# Altium schematic symbol library pporyzala-TI_Lighting.SchLib: 745 symbols (part 45 of 48)
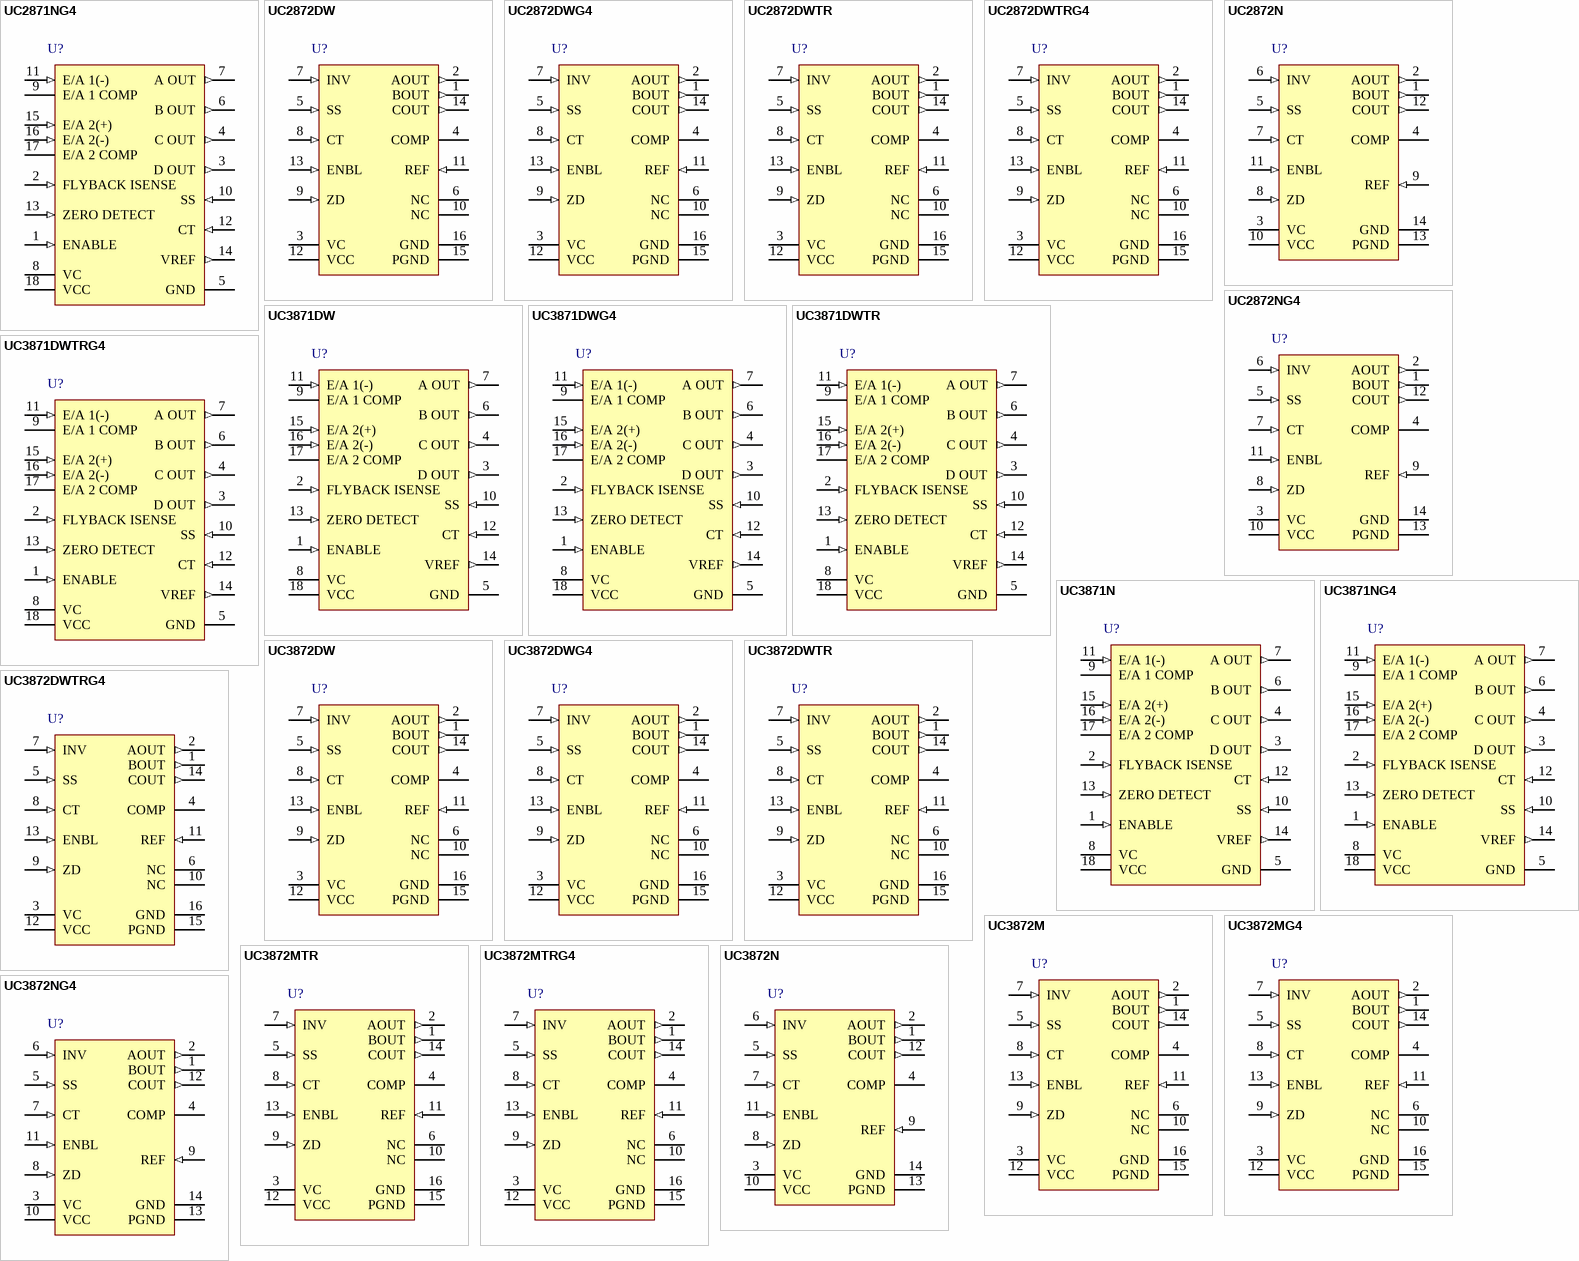
[diagram p75: symbols UC2871NG4 to UC3872NG4]

## UC2872DW
designator U?
Resonant Lamp Ballast Controller, 4.5 to 24 V, -40 to 85 degC, 16-pin SOIC (DW16), Green (RoHS & no Sb/Br); Manufacturer: Texas Instruments; PartNumber: UC2872DW; Control Topology: Push-Pull; Frequency(Max)(kHz): 200; Open Lamp Detect: TRUE; Rating: Catalog; SubFamily: CCFL Backlight Converter; Vin(Max)(V): 24; Vin(Min)(V): 4.5; PackageVersion: 4040000-2/G; PackageReference: DW16; PackageDescription: 16-Pin Plastic Small Outline, Body 10.30 x 7.50 mm, Pitch 1.27 mm; Supplier 1: Digi-Key; Supplier Part Number 1: 296-11200-5-ND; Supplier 2: Newark; Supplier Part Number 2: 77C3059; Supplier 3: Mouser; Supplier Part Number 3: 595-UC2872DW; Eco-Plan: Green (RoHS & no Sb/Br); Mounting Technology: Surface Mount; Code_JEDEC: MS-013; ComponentLink1Description: Manufacturer URL; ComponentLink1URL: http://www.ti.com/; ComponentLink2Description: Datasheet; ComponentLink2URL: http://www.ti.com/general/docs/lit/getliterature.tsp?genericPartNumber=UC2872&fileType=pdf; ComponentLink3Description: Package Specification; ComponentLink3URL: http://www.ti.com/litv/pdf/msoi003g
footprint TI-DW16_N (SOIC, 16-Leads, Body 10.3x7.5mm, Pitch 1.27mm, IPC Medium Density)
footprint TI-DW16_L (SOIC, 16-Leads, Body 10.3x7.5mm, Pitch 1.27mm, IPC High Density)
footprint TI-DW16_M (SOIC, 16-Leads, Body 10.3x7.5mm, Pitch 1.27mm, IPC Low Density)
pins: 1 BOUT (out) "These outputs provide complementary drive signals for the push-pull N-channel MOSFETs.Each one is high for 50% of the time, switching states each time a zero-detect is sensed.", 2 AOUT (out) "These outputs provide complementary drive signals for the push-pull N-channel MOSFETs.Each one is high for 50% of the time, switching states each time a zero-detect is sensed.", 3 VC (power) "VC is the power supply voltage connection for the output drivers. Bypass it to ground with a 0.1uF ceramic capacitor for proper operation.", 4 COMP "COMP is the output terminal of the error amplifier. Compensation components are normally connected between COMP and INV. Connecting a capacitor from this pin to ground limits turn on current and blanks the open lamp detect (See Datasheet)", 5 SS (in), 6 NC, 7 INV (in) "This pin is the inverting input to the error amplifier and the input for the open lamp detect circuitry. If the voltage at INV is below the 1V open lamp detect threshold,the outputs are disabled.", 8 CT (in) "A capacitor connected between this pin and GND ground sets the synchronization frequency range. The capacitor is charged with approximately 200uA, creating a linear ramp which is used by COUT’s (buck regulator driver) PWM (See Datasheet)", 9 ZD (in) "The zero-detect input senses when the transformer’s primary center tap voltage falls to zero to synchronize the sawtooth voltage waveform on CT. The threshold is approximately 0.5V, providing a small amount of offset such (See Datasheet)", 10 NC, 11 REF (in) "This pin is connected to the 3V reference voltage which is used for the internal logic. Bypass REF to ground with a 0.01uF ceramic capacitor for proper operation.", 12 VCC (power) "VCC is the positive supply voltage for the chip. Its operating range is from 4.2V to 24V. Bypass VCC to ground with a 0.1uF ceramic capacitor for proper operation.", 13 ENBL (in) "When ENBL is driven high the device is enabled.When ENBL is pulled low, the IC is shut down and typically draws 1uA.", 14 COUT (out) "This output directly drives the bulk regulator P-channel MOSFET. COUT turn-on is synchronized to each zero-detect, and therefore switches at twice the frequency of AOUT and BOUT. The modulator controlling COUT is designed to (See Datasheet)", 15 PGND (power) "This pin is the high current ground connection for the three output drivers.", 16 GND (power) "This pin is the ground reference point for the internal reference and all thresholds."

## UC2872DWG4
designator U?
Resonant Lamp Ballast Controller, 4.5 to 24 V, -40 to 85 degC, 16-pin SOIC (DW16), Green (RoHS & no Sb/Br); Manufacturer: Texas Instruments; PartNumber: UC2872DWG4; Control Topology: Push-Pull; Frequency(Max)(kHz): 200; Open Lamp Detect: TRUE; Rating: Catalog; SubFamily: CCFL Backlight Converter; Vin(Max)(V): 24; Vin(Min)(V): 4.5; PackageVersion: 4040000-2/G; PackageReference: DW16; PackageDescription: 16-Pin Plastic Small Outline, Body 10.30 x 7.50 mm, Pitch 1.27 mm; Supplier 1: Digi-Key; Supplier Part Number 1: UC2872DWG4-ND; Supplier 2: Newark; Supplier Part Number 2: 80K3533; Supplier 3: Mouser; Supplier Part Number 3: 595-UC2872DWG4; Eco-Plan: Green (RoHS & no Sb/Br); Mounting Technology: Surface Mount; Code_JEDEC: MS-013; ComponentLink1Description: Manufacturer URL; ComponentLink1URL: http://www.ti.com/; ComponentLink2Description: Datasheet; ComponentLink2URL: http://www.ti.com/general/docs/lit/getliterature.tsp?genericPartNumber=UC2872&fileType=pdf; ComponentLink3Description: Package Specification; ComponentLink3URL: http://www.ti.com/litv/pdf/msoi003g
footprint TI-DW16_N (SOIC, 16-Leads, Body 10.3x7.5mm, Pitch 1.27mm, IPC Medium Density)
footprint TI-DW16_L (SOIC, 16-Leads, Body 10.3x7.5mm, Pitch 1.27mm, IPC High Density)
footprint TI-DW16_M (SOIC, 16-Leads, Body 10.3x7.5mm, Pitch 1.27mm, IPC Low Density)
pins: 1 BOUT (out) "These outputs provide complementary drive signals for the push-pull N-channel MOSFETs.Each one is high for 50% of the time, switching states each time a zero-detect is sensed.", 2 AOUT (out) "These outputs provide complementary drive signals for the push-pull N-channel MOSFETs.Each one is high for 50% of the time, switching states each time a zero-detect is sensed.", 3 VC (power) "VC is the power supply voltage connection for the output drivers. Bypass it to ground with a 0.1uF ceramic capacitor for proper operation.", 4 COMP "COMP is the output terminal of the error amplifier. Compensation components are normally connected between COMP and INV. Connecting a capacitor from this pin to ground limits turn on current and blanks the open lamp detect (See Datasheet)", 5 SS (in), 6 NC, 7 INV (in) "This pin is the inverting input to the error amplifier and the input for the open lamp detect circuitry. If the voltage at INV is below the 1V open lamp detect threshold,the outputs are disabled.", 8 CT (in) "A capacitor connected between this pin and GND ground sets the synchronization frequency range. The capacitor is charged with approximately 200uA, creating a linear ramp which is used by COUT’s (buck regulator driver) PWM (See Datasheet)", 9 ZD (in) "The zero-detect input senses when the transformer’s primary center tap voltage falls to zero to synchronize the sawtooth voltage waveform on CT. The threshold is approximately 0.5V, providing a small amount of offset such (See Datasheet)", 10 NC, 11 REF (in) "This pin is connected to the 3V reference voltage which is used for the internal logic. Bypass REF to ground with a 0.01uF ceramic capacitor for proper operation.", 12 VCC (power) "VCC is the positive supply voltage for the chip. Its operating range is from 4.2V to 24V. Bypass VCC to ground with a 0.1uF ceramic capacitor for proper operation.", 13 ENBL (in) "When ENBL is driven high the device is enabled.When ENBL is pulled low, the IC is shut down and typically draws 1uA.", 14 COUT (out) "This output directly drives the bulk regulator P-channel MOSFET. COUT turn-on is synchronized to each zero-detect, and therefore switches at twice the frequency of AOUT and BOUT. The modulator controlling COUT is designed to (See Datasheet)", 15 PGND (power) "This pin is the high current ground connection for the three output drivers.", 16 GND (power) "This pin is the ground reference point for the internal reference and all thresholds."

## UC2872DWTR
designator U?
Resonant Lamp Ballast Controller, 4.5 to 24 V, -40 to 85 degC, 16-pin SOIC (DW16), Green (RoHS & no Sb/Br); Manufacturer: Texas Instruments; PartNumber: UC2872DWTR; Control Topology: Push-Pull; Frequency(Max)(kHz): 200; Open Lamp Detect: TRUE; Rating: Catalog; SubFamily: CCFL Backlight Converter; Vin(Max)(V): 24; Vin(Min)(V): 4.5; PackageVersion: 4040000-2/G; PackageReference: DW16; PackageDescription: 16-Pin Plastic Small Outline, Body 10.30 x 7.50 mm, Pitch 1.27 mm; Supplier 1: Digi-Key; Supplier Part Number 1: UC2872DWTR-ND; Supplier 2: Newark; Supplier Part Number 2: 77C3060; Supplier 3: Mouser; Supplier Part Number 3: 595-UC2872DWTR; Eco-Plan: Green (RoHS & no Sb/Br); Mounting Technology: Surface Mount; Code_JEDEC: MS-013; ComponentLink1Description: Manufacturer URL; ComponentLink1URL: http://www.ti.com/; ComponentLink2Description: Datasheet; ComponentLink2URL: http://www.ti.com/general/docs/lit/getliterature.tsp?genericPartNumber=UC2872&fileType=pdf; ComponentLink3Description: Package Specification; ComponentLink3URL: http://www.ti.com/litv/pdf/msoi003g
footprint TI-DW16_N (SOIC, 16-Leads, Body 10.3x7.5mm, Pitch 1.27mm, IPC Medium Density)
footprint TI-DW16_L (SOIC, 16-Leads, Body 10.3x7.5mm, Pitch 1.27mm, IPC High Density)
footprint TI-DW16_M (SOIC, 16-Leads, Body 10.3x7.5mm, Pitch 1.27mm, IPC Low Density)
pins: 1 BOUT (out) "These outputs provide complementary drive signals for the push-pull N-channel MOSFETs.Each one is high for 50% of the time, switching states each time a zero-detect is sensed.", 2 AOUT (out) "These outputs provide complementary drive signals for the push-pull N-channel MOSFETs.Each one is high for 50% of the time, switching states each time a zero-detect is sensed.", 3 VC (power) "VC is the power supply voltage connection for the output drivers. Bypass it to ground with a 0.1uF ceramic capacitor for proper operation.", 4 COMP "COMP is the output terminal of the error amplifier. Compensation components are normally connected between COMP and INV. Connecting a capacitor from this pin to ground limits turn on current and blanks the open lamp detect (See Datasheet)", 5 SS (in), 6 NC, 7 INV (in) "This pin is the inverting input to the error amplifier and the input for the open lamp detect circuitry. If the voltage at INV is below the 1V open lamp detect threshold,the outputs are disabled.", 8 CT (in) "A capacitor connected between this pin and GND ground sets the synchronization frequency range. The capacitor is charged with approximately 200uA, creating a linear ramp which is used by COUT’s (buck regulator driver) PWM (See Datasheet)", 9 ZD (in) "The zero-detect input senses when the transformer’s primary center tap voltage falls to zero to synchronize the sawtooth voltage waveform on CT. The threshold is approximately 0.5V, providing a small amount of offset such (See Datasheet)", 10 NC, 11 REF (in) "This pin is connected to the 3V reference voltage which is used for the internal logic. Bypass REF to ground with a 0.01uF ceramic capacitor for proper operation.", 12 VCC (power) "VCC is the positive supply voltage for the chip. Its operating range is from 4.2V to 24V. Bypass VCC to ground with a 0.1uF ceramic capacitor for proper operation.", 13 ENBL (in) "When ENBL is driven high the device is enabled.When ENBL is pulled low, the IC is shut down and typically draws 1uA.", 14 COUT (out) "This output directly drives the bulk regulator P-channel MOSFET. COUT turn-on is synchronized to each zero-detect, and therefore switches at twice the frequency of AOUT and BOUT. The modulator controlling COUT is designed to (See Datasheet)", 15 PGND (power) "This pin is the high current ground connection for the three output drivers.", 16 GND (power) "This pin is the ground reference point for the internal reference and all thresholds."

## UC2872DWTRG4
designator U?
Resonant Lamp Ballast Controller, 4.5 to 24 V, -40 to 85 degC, 16-pin SOIC (DW16), Green (RoHS & no Sb/Br); Manufacturer: Texas Instruments; PartNumber: UC2872DWTRG4; Control Topology: Push-Pull; Frequency(Max)(kHz): 200; Open Lamp Detect: TRUE; Rating: Catalog; SubFamily: CCFL Backlight Converter; Vin(Max)(V): 24; Vin(Min)(V): 4.5; PackageVersion: 4040000-2/G; PackageReference: DW16; PackageDescription: 16-Pin Plastic Small Outline, Body 10.30 x 7.50 mm, Pitch 1.27 mm; Supplier 1: Digi-Key; Supplier Part Number 1: UC2872DWTRG4-ND; Supplier 2: Newark; Supplier Part Number 2: 63K6700; Supplier 3: Mouser; Supplier Part Number 3: 595-UC2872DWTRG4; Eco-Plan: Green (RoHS & no Sb/Br); Mounting Technology: Surface Mount; Code_JEDEC: MS-013; ComponentLink1Description: Manufacturer URL; ComponentLink1URL: http://www.ti.com/; ComponentLink2Description: Datasheet; ComponentLink2URL: http://www.ti.com/general/docs/lit/getliterature.tsp?genericPartNumber=UC2872&fileType=pdf; ComponentLink3Description: Package Specification; ComponentLink3URL: http://www.ti.com/litv/pdf/msoi003g
footprint TI-DW16_N (SOIC, 16-Leads, Body 10.3x7.5mm, Pitch 1.27mm, IPC Medium Density)
footprint TI-DW16_L (SOIC, 16-Leads, Body 10.3x7.5mm, Pitch 1.27mm, IPC High Density)
footprint TI-DW16_M (SOIC, 16-Leads, Body 10.3x7.5mm, Pitch 1.27mm, IPC Low Density)
pins: 1 BOUT (out) "These outputs provide complementary drive signals for the push-pull N-channel MOSFETs.Each one is high for 50% of the time, switching states each time a zero-detect is sensed.", 2 AOUT (out) "These outputs provide complementary drive signals for the push-pull N-channel MOSFETs.Each one is high for 50% of the time, switching states each time a zero-detect is sensed.", 3 VC (power) "VC is the power supply voltage connection for the output drivers. Bypass it to ground with a 0.1uF ceramic capacitor for proper operation.", 4 COMP "COMP is the output terminal of the error amplifier. Compensation components are normally connected between COMP and INV. Connecting a capacitor from this pin to ground limits turn on current and blanks the open lamp detect (See Datasheet)", 5 SS (in), 6 NC, 7 INV (in) "This pin is the inverting input to the error amplifier and the input for the open lamp detect circuitry. If the voltage at INV is below the 1V open lamp detect threshold,the outputs are disabled.", 8 CT (in) "A capacitor connected between this pin and GND ground sets the synchronization frequency range. The capacitor is charged with approximately 200uA, creating a linear ramp which is used by COUT’s (buck regulator driver) PWM (See Datasheet)", 9 ZD (in) "The zero-detect input senses when the transformer’s primary center tap voltage falls to zero to synchronize the sawtooth voltage waveform on CT. The threshold is approximately 0.5V, providing a small amount of offset such (See Datasheet)", 10 NC, 11 REF (in) "This pin is connected to the 3V reference voltage which is used for the internal logic. Bypass REF to ground with a 0.01uF ceramic capacitor for proper operation.", 12 VCC (power) "VCC is the positive supply voltage for the chip. Its operating range is from 4.2V to 24V. Bypass VCC to ground with a 0.1uF ceramic capacitor for proper operation.", 13 ENBL (in) "When ENBL is driven high the device is enabled.When ENBL is pulled low, the IC is shut down and typically draws 1uA.", 14 COUT (out) "This output directly drives the bulk regulator P-channel MOSFET. COUT turn-on is synchronized to each zero-detect, and therefore switches at twice the frequency of AOUT and BOUT. The modulator controlling COUT is designed to (See Datasheet)", 15 PGND (power) "This pin is the high current ground connection for the three output drivers.", 16 GND (power) "This pin is the ground reference point for the internal reference and all thresholds."

## UC2872N
designator U?
Resonant Lamp Ballast Controller, 4.5 to 24 V, -40 to 85 degC, 14-pin DIP (N14), Green (RoHS & no Sb/Br); Manufacturer: Texas Instruments; PartNumber: UC2872N; Control Topology: Push-Pull; Frequency(Max)(kHz): 200; Open Lamp Detect: TRUE; Rating: Catalog; SubFamily: CCFL Backlight Converter; Vin(Max)(V): 24; Vin(Min)(V): 4.5; PackageVersion: 4040049/E; PackageReference: N14; PackageDescription: 14-Pin Plastic In-Line, Body 19.305 x 6.35 mm, Pitch 2.54 mm; Supplier 1: Digi-Key; Supplier Part Number 1: UC2872N-ND; Supplier 2: Newark; Supplier Part Number 2: 77C3061; Supplier 3: Mouser; Supplier Part Number 3: 595-UC2872N; Eco-Plan: Green (RoHS & no Sb/Br); Mounting Technology: Through Hole; Code_JEDEC: MS-001; ComponentLink1Description: Manufacturer URL; ComponentLink1URL: http://www.ti.com/; ComponentLink2Description: Datasheet; ComponentLink2URL: http://www.ti.com/general/docs/lit/getliterature.tsp?genericPartNumber=UC2872&fileType=pdf; ComponentLink3Description: Package Specification; ComponentLink3URL: http://www.ti.com/lit/ml/mpdi002c/mpdi002c.pdf
footprint TI-N14 (DIP, 14-Leads, Body 19.305x6.35 mm, Pitch 2.54 mm)
pins: 1 BOUT (out) "These outputs provide complementary drive signals for the push-pull N-channel MOSFETs.Each one is high for 50% of the time, switching states each time a zero-detect is sensed.", 2 AOUT (out) "These outputs provide complementary drive signals for the push-pull N-channel MOSFETs.Each one is high for 50% of the time, switching states each time a zero-detect is sensed.", 3 VC (power) "VC is the power supply voltage connection for the output drivers. Bypass it to ground with a 0.1uF ceramic capacitor for proper operation.", 4 COMP "COMP is the output terminal of the error amplifier. Compensation components are normally connected between COMP and INV. Connecting a capacitor from this pin to ground limits turn on current and blanks the open lamp detect (See Datasheet)", 5 SS (in), 6 INV (in) "This pin is the inverting input to the error amplifier and the input for the open lamp detect circuitry. If the voltage at INV is below the 1V open lamp detect threshold,the outputs are disabled.", 7 CT (in) "A capacitor connected between this pin and GND ground sets the synchronization frequency range. The capacitor is charged with approximately 200uA, creating a linear ramp which is used by COUT’s (buck regulator driver) PWM (See Datasheet)", 8 ZD (in) "The zero-detect input senses when the transformer’s primary center tap voltage falls to zero to synchronize the sawtooth voltage waveform on CT. The threshold is approximately 0.5V, providing a small amount of offset such (See Datasheet)", 9 REF (in) "This pin is connected to the 3V reference voltage which is used for the internal logic. Bypass REF to ground with a 0.01uF ceramic capacitor for proper operation.", 10 VCC (power) "VCC is the positive supply voltage for the chip. Its operating range is from 4.2V to 24V. Bypass VCC to ground with a 0.1uF ceramic capacitor for proper operation.", 11 ENBL (in) "When ENBL is driven high the device is enabled.When ENBL is pulled low, the IC is shut down and typically draws 1uA.", 12 COUT (out) "This output directly drives the bulk regulator P-channel MOSFET. COUT turn-on is synchronized to each zero-detect, and therefore switches at twice the frequency of AOUT and BOUT. The modulator controlling COUT is designed to (See Datasheet)", 13 PGND (power) "This pin is the high current ground connection for the three output drivers.", 14 GND (power) "This pin is the ground reference point for the internal reference and all thresholds."

## UC2872NG4
designator U?
Resonant Lamp Ballast Controller, 4.5 to 24 V, -40 to 85 degC, 14-pin DIP (N14), Green (RoHS & no Sb/Br); Manufacturer: Texas Instruments; PartNumber: UC2872NG4; Control Topology: Push-Pull; Frequency(Max)(kHz): 200; Open Lamp Detect: TRUE; Rating: Catalog; SubFamily: CCFL Backlight Converter; Vin(Max)(V): 24; Vin(Min)(V): 4.5; PackageVersion: 4040049/E; PackageReference: N14; PackageDescription: 14-Pin Plastic In-Line, Body 19.305 x 6.35 mm, Pitch 2.54 mm; Supplier 1: Digi-Key; Supplier Part Number 1: UC2872NG4-ND; Supplier 2: Newark; Supplier Part Number 2: 70K5987; Supplier 3: Mouser; Supplier Part Number 3: 595-UC2872NG4; Eco-Plan: Green (RoHS & no Sb/Br); Mounting Technology: Through Hole; Code_JEDEC: MS-001; ComponentLink1Description: Manufacturer URL; ComponentLink1URL: http://www.ti.com/; ComponentLink2Description: Datasheet; ComponentLink2URL: http://www.ti.com/general/docs/lit/getliterature.tsp?genericPartNumber=UC2872&fileType=pdf; ComponentLink3Description: Package Specification; ComponentLink3URL: http://www.ti.com/lit/ml/mpdi002c/mpdi002c.pdf
footprint TI-N14 (DIP, 14-Leads, Body 19.305x6.35 mm, Pitch 2.54 mm)
pins: 1 BOUT (out) "These outputs provide complementary drive signals for the push-pull N-channel MOSFETs.Each one is high for 50% of the time, switching states each time a zero-detect is sensed.", 2 AOUT (out) "These outputs provide complementary drive signals for the push-pull N-channel MOSFETs.Each one is high for 50% of the time, switching states each time a zero-detect is sensed.", 3 VC (power) "VC is the power supply voltage connection for the output drivers. Bypass it to ground with a 0.1uF ceramic capacitor for proper operation.", 4 COMP "COMP is the output terminal of the error amplifier. Compensation components are normally connected between COMP and INV. Connecting a capacitor from this pin to ground limits turn on current and blanks the open lamp detect (See Datasheet)", 5 SS (in), 6 INV (in) "This pin is the inverting input to the error amplifier and the input for the open lamp detect circuitry. If the voltage at INV is below the 1V open lamp detect threshold,the outputs are disabled.", 7 CT (in) "A capacitor connected between this pin and GND ground sets the synchronization frequency range. The capacitor is charged with approximately 200uA, creating a linear ramp which is used by COUT’s (buck regulator driver) PWM (See Datasheet)", 8 ZD (in) "The zero-detect input senses when the transformer’s primary center tap voltage falls to zero to synchronize the sawtooth voltage waveform on CT. The threshold is approximately 0.5V, providing a small amount of offset such (See Datasheet)", 9 REF (in) "This pin is connected to the 3V reference voltage which is used for the internal logic. Bypass REF to ground with a 0.01uF ceramic capacitor for proper operation.", 10 VCC (power) "VCC is the positive supply voltage for the chip. Its operating range is from 4.2V to 24V. Bypass VCC to ground with a 0.1uF ceramic capacitor for proper operation.", 11 ENBL (in) "When ENBL is driven high the device is enabled.When ENBL is pulled low, the IC is shut down and typically draws 1uA.", 12 COUT (out) "This output directly drives the bulk regulator P-channel MOSFET. COUT turn-on is synchronized to each zero-detect, and therefore switches at twice the frequency of AOUT and BOUT. The modulator controlling COUT is designed to (See Datasheet)", 13 PGND (power) "This pin is the high current ground connection for the three output drivers.", 14 GND (power) "This pin is the ground reference point for the internal reference and all thresholds."

## UC3871DW
designator U?
Resonant Fluorescent Lamp Driver, 4.5 to 20 V, 0 to 70 degC, 18-pin SOIC (DW18), Green (RoHS & no Sb/Br); Manufacturer: Texas Instruments; PartNumber: UC3871DW; Control Topology: Push-Pull; Frequency(Max)(kHz): 200; Open Lamp Detect: TRUE; Rating: Catalog; SubFamily: CCFL Backlight Converter; Vin(Max)(V): 20; Vin(Min)(V): 4.5; PackageVersion: 4040000-3/G; PackageReference: DW18; PackageDescription: 18-Pin Plastic Small Outline, Body 11.55 x 7.5 mm, Pitch 1.27 mm; Supplier 1: Digi-Key; Supplier Part Number 1: 296-11326-5-ND; Supplier 2: Newark; Supplier Part Number 2: 77C3414; Supplier 3: Mouser; Supplier Part Number 3: 595-UC3871DW; Eco-Plan: Green (RoHS & no Sb/Br); Mounting Technology: Surface Mount; Code_JEDEC: MS-013; ComponentLink1Description: Manufacturer URL; ComponentLink1URL: http://www.ti.com/; ComponentLink2Description: Datasheet; ComponentLink2URL: http://www.ti.com/general/docs/lit/getliterature.tsp?genericPartNumber=UC3871&fileType=pdf; ComponentLink3Description: Package Specification; ComponentLink3URL: http://www.ti.com/lit/ml/mpds172a/mpds172a.pdf
footprint TI-DW18_N (SOIC, 18-Leads, Body 11.55x7.5mm, Pitch 1.27mm, IPC Medium Density)
footprint TI-DW18_L (SOIC, 18-Leads, Body 11.55x7.5mm, Pitch 1.27mm, IPC High Density)
footprint TI-DW18_M (SOIC, 18-Leads, Body 11.55x7.5mm, Pitch 1.27mm, IPC Low Density)
pins: 1 ENABLE (in), 2 FLYBACK ISENSE (in), 3 D OUT (out), 4 C OUT (out), 5 GND (power), 6 B OUT (out), 7 A OUT (out), 8 VC (power), 9 E/A 1 COMP, 10 SS (in), 11 E/A 1(-) (in), 12 CT (in), 13 ZERO DETECT (in), 14 VREF (out), 15 E/A 2(+) (in), 16 E/A 2(-) (in), 17 E/A 2 COMP, 18 VCC (power)

## UC3871DWG4
designator U?
Resonant Fluorescent Lamp Driver, 4.5 to 20 V, 0 to 70 degC, 18-pin SOIC (DW18), Green (RoHS & no Sb/Br); Manufacturer: Texas Instruments; PartNumber: UC3871DWG4; Control Topology: Push-Pull; Frequency(Max)(kHz): 200; Open Lamp Detect: TRUE; Rating: Catalog; SubFamily: CCFL Backlight Converter; Vin(Max)(V): 20; Vin(Min)(V): 4.5; PackageVersion: 4040000-3/G; PackageReference: DW18; PackageDescription: 18-Pin Plastic Small Outline, Body 11.55 x 7.5 mm, Pitch 1.27 mm; Supplier 1: Digi-Key; Supplier Part Number 1: UC3871DWG4-ND; Supplier 2: Newark; Supplier Part Number 2: 73K9715; Supplier 3: Mouser; Supplier Part Number 3: 595-UC3871DWG4; Eco-Plan: Green (RoHS & no Sb/Br); Mounting Technology: Surface Mount; Code_JEDEC: MS-013; ComponentLink1Description: Manufacturer URL; ComponentLink1URL: http://www.ti.com/; ComponentLink2Description: Datasheet; ComponentLink2URL: http://www.ti.com/general/docs/lit/getliterature.tsp?genericPartNumber=UC3871&fileType=pdf; ComponentLink3Description: Package Specification; ComponentLink3URL: http://www.ti.com/lit/ml/mpds172a/mpds172a.pdf
footprint TI-DW18_N (SOIC, 18-Leads, Body 11.55x7.5mm, Pitch 1.27mm, IPC Medium Density)
footprint TI-DW18_L (SOIC, 18-Leads, Body 11.55x7.5mm, Pitch 1.27mm, IPC High Density)
footprint TI-DW18_M (SOIC, 18-Leads, Body 11.55x7.5mm, Pitch 1.27mm, IPC Low Density)
pins: 1 ENABLE (in), 2 FLYBACK ISENSE (in), 3 D OUT (out), 4 C OUT (out), 5 GND (power), 6 B OUT (out), 7 A OUT (out), 8 VC (power), 9 E/A 1 COMP, 10 SS (in), 11 E/A 1(-) (in), 12 CT (in), 13 ZERO DETECT (in), 14 VREF (out), 15 E/A 2(+) (in), 16 E/A 2(-) (in), 17 E/A 2 COMP, 18 VCC (power)

## UC3871DWTR
designator U?
Resonant Fluorescent Lamp Driver, 4.5 to 20 V, 0 to 70 degC, 18-pin SOIC (DW18), Green (RoHS & no Sb/Br); Manufacturer: Texas Instruments; PartNumber: UC3871DWTR; Control Topology: Push-Pull; Frequency(Max)(kHz): 200; Open Lamp Detect: TRUE; Rating: Catalog; SubFamily: CCFL Backlight Converter; Vin(Max)(V): 20; Vin(Min)(V): 4.5; PackageVersion: 4040000-3/G; PackageReference: DW18; PackageDescription: 18-Pin Plastic Small Outline, Body 11.55 x 7.5 mm, Pitch 1.27 mm; Supplier 1: Digi-Key; Supplier Part Number 1: UC3871DWTR-ND; Supplier 2: Newark; Supplier Part Number 2: 77C3415; Supplier 3: Mouser; Supplier Part Number 3: 595-UC3871DWTR; Eco-Plan: Green (RoHS & no Sb/Br); Mounting Technology: Surface Mount; Code_JEDEC: MS-013; ComponentLink1Description: Manufacturer URL; ComponentLink1URL: http://www.ti.com/; ComponentLink2Description: Datasheet; ComponentLink2URL: http://www.ti.com/general/docs/lit/getliterature.tsp?genericPartNumber=UC3871&fileType=pdf; ComponentLink3Description: Package Specification; ComponentLink3URL: http://www.ti.com/lit/ml/mpds172a/mpds172a.pdf
footprint TI-DW18_N (SOIC, 18-Leads, Body 11.55x7.5mm, Pitch 1.27mm, IPC Medium Density)
footprint TI-DW18_L (SOIC, 18-Leads, Body 11.55x7.5mm, Pitch 1.27mm, IPC High Density)
footprint TI-DW18_M (SOIC, 18-Leads, Body 11.55x7.5mm, Pitch 1.27mm, IPC Low Density)
pins: 1 ENABLE (in), 2 FLYBACK ISENSE (in), 3 D OUT (out), 4 C OUT (out), 5 GND (power), 6 B OUT (out), 7 A OUT (out), 8 VC (power), 9 E/A 1 COMP, 10 SS (in), 11 E/A 1(-) (in), 12 CT (in), 13 ZERO DETECT (in), 14 VREF (out), 15 E/A 2(+) (in), 16 E/A 2(-) (in), 17 E/A 2 COMP, 18 VCC (power)

## UC3871DWTRG4
designator U?
Resonant Fluorescent Lamp Driver, 4.5 to 20 V, 0 to 70 degC, 18-pin SOIC (DW18), Green (RoHS & no Sb/Br); Manufacturer: Texas Instruments; PartNumber: UC3871DWTRG4; Control Topology: Push-Pull; Frequency(Max)(kHz): 200; Open Lamp Detect: TRUE; Rating: Catalog; SubFamily: CCFL Backlight Converter; Vin(Max)(V): 20; Vin(Min)(V): 4.5; PackageVersion: 4040000-3/G; PackageReference: DW18; PackageDescription: 18-Pin Plastic Small Outline, Body 11.55 x 7.5 mm, Pitch 1.27 mm; Supplier 1: Digi-Key; Supplier Part Number 1: UC3871DWTRG4-ND; Supplier 2: Newark; Supplier Part Number 2: 63K6759; Supplier 3: Mouser; Supplier Part Number 3: 595-UC3871DWTRG4; Eco-Plan: Green (RoHS & no Sb/Br); Mounting Technology: Surface Mount; Code_JEDEC: MS-013; ComponentLink1Description: Manufacturer URL; ComponentLink1URL: http://www.ti.com/; ComponentLink2Description: Datasheet; ComponentLink2URL: http://www.ti.com/general/docs/lit/getliterature.tsp?genericPartNumber=UC3871&fileType=pdf; ComponentLink3Description: Package Specification; ComponentLink3URL: http://www.ti.com/lit/ml/mpds172a/mpds172a.pdf
footprint TI-DW18_N (SOIC, 18-Leads, Body 11.55x7.5mm, Pitch 1.27mm, IPC Medium Density)
footprint TI-DW18_L (SOIC, 18-Leads, Body 11.55x7.5mm, Pitch 1.27mm, IPC High Density)
footprint TI-DW18_M (SOIC, 18-Leads, Body 11.55x7.5mm, Pitch 1.27mm, IPC Low Density)
pins: 1 ENABLE (in), 2 FLYBACK ISENSE (in), 3 D OUT (out), 4 C OUT (out), 5 GND (power), 6 B OUT (out), 7 A OUT (out), 8 VC (power), 9 E/A 1 COMP, 10 SS (in), 11 E/A 1(-) (in), 12 CT (in), 13 ZERO DETECT (in), 14 VREF (out), 15 E/A 2(+) (in), 16 E/A 2(-) (in), 17 E/A 2 COMP, 18 VCC (power)

## UC3871N
designator U?
Resonant Fluorescent Lamp Driver, 4.5 to 20 V, 0 to 70 degC, 18-pin DIP (N18), Green (RoHS & no Sb/Br); Manufacturer: Texas Instruments; PartNumber: UC3871N; Control Topology: Push-Pull; Frequency(Max)(kHz): 200; Open Lamp Detect: TRUE; Rating: Catalog; SubFamily: CCFL Backlight Converter; Vin(Max)(V): 20; Vin(Min)(V): 4.5; PackageVersion: 4040049/E; PackageReference: N18; PackageDescription: 18-Pin Plastic In-Line, Body 22.48 x 6.35 mm, Pitch 2.54 mm; Supplier 1: Digi-Key; Supplier Part Number 1: 296-11327-5-ND; Supplier 2: Newark; Supplier Part Number 2: 77C3416; Supplier 3: Mouser; Supplier Part Number 3: 595-UC3871N; Eco-Plan: Green (RoHS & no Sb/Br); Mounting Technology: Through Hole; Code_JEDEC: MS-001; ComponentLink1Description: Manufacturer URL; ComponentLink1URL: http://www.ti.com/; ComponentLink2Description: Datasheet; ComponentLink2URL: http://www.ti.com/general/docs/lit/getliterature.tsp?genericPartNumber=UC3871&fileType=pdf; ComponentLink3Description: Package Specification; ComponentLink3URL: http://www.ti.com/lit/ml/mpdi002c/mpdi002c.pdf
footprint TI-N18 (DIP, 18-Leads, Body 22.48x6.35 mm, Pitch 2.54 mm)
pins: 1 ENABLE (in), 2 FLYBACK ISENSE (in), 3 D OUT (out), 4 C OUT (out), 5 GND (power), 6 B OUT (out), 7 A OUT (out), 8 VC (power), 9 E/A 1 COMP, 10 SS (in), 11 E/A 1(-) (in), 12 CT (in), 13 ZERO DETECT (in), 14 VREF (out), 15 E/A 2(+) (in), 16 E/A 2(-) (in), 17 E/A 2 COMP, 18 VCC (power)

## UC3871NG4
designator U?
Resonant Fluorescent Lamp Driver, 4.5 to 20 V, 0 to 70 degC, 18-pin DIP (N18), Green (RoHS & no Sb/Br); Manufacturer: Texas Instruments; PartNumber: UC3871NG4; Control Topology: Push-Pull; Frequency(Max)(kHz): 200; Open Lamp Detect: TRUE; Rating: Catalog; SubFamily: CCFL Backlight Converter; Vin(Max)(V): 20; Vin(Min)(V): 4.5; PackageVersion: 4040049/E; PackageReference: N18; PackageDescription: 18-Pin Plastic In-Line, Body 22.48 x 6.35 mm, Pitch 2.54 mm; Supplier 1: Digi-Key; Supplier Part Number 1: UC3871NG4-ND; Supplier 2: Newark; Supplier Part Number 2: 54K2351; Supplier 3: Mouser; Supplier Part Number 3: 595-UC3871NG4; Eco-Plan: Green (RoHS & no Sb/Br); Mounting Technology: Through Hole; Code_JEDEC: MS-001; ComponentLink1Description: Manufacturer URL; ComponentLink1URL: http://www.ti.com/; ComponentLink2Description: Datasheet; ComponentLink2URL: http://www.ti.com/general/docs/lit/getliterature.tsp?genericPartNumber=UC3871&fileType=pdf; ComponentLink3Description: Package Specification; ComponentLink3URL: http://www.ti.com/lit/ml/mpdi002c/mpdi002c.pdf
footprint TI-N18 (DIP, 18-Leads, Body 22.48x6.35 mm, Pitch 2.54 mm)
pins: 1 ENABLE (in), 2 FLYBACK ISENSE (in), 3 D OUT (out), 4 C OUT (out), 5 GND (power), 6 B OUT (out), 7 A OUT (out), 8 VC (power), 9 E/A 1 COMP, 10 SS (in), 11 E/A 1(-) (in), 12 CT (in), 13 ZERO DETECT (in), 14 VREF (out), 15 E/A 2(+) (in), 16 E/A 2(-) (in), 17 E/A 2 COMP, 18 VCC (power)

## UC3872DW
designator U?
Resonant Lamp Ballast Controller, 4.5 to 24 V, 0 to 70 degC, 16-pin SOIC (DW16), Green (RoHS & no Sb/Br); Manufacturer: Texas Instruments; PartNumber: UC3872DW; Control Topology: Push-Pull; Frequency(Max)(kHz): 200; Open Lamp Detect: TRUE; Rating: Catalog; SubFamily: CCFL Backlight Converter; Vin(Max)(V): 24; Vin(Min)(V): 4.5; PackageVersion: 4040000-2/G; PackageReference: DW16; PackageDescription: 16-Pin Plastic Small Outline, Body 10.30 x 7.50 mm, Pitch 1.27 mm; Supplier 1: Digi-Key; Supplier Part Number 1: 296-11328-5-ND; Supplier 2: Newark; Supplier Part Number 2: 77C3419; Supplier 3: Mouser; Supplier Part Number 3: 595-UC3872DW; Eco-Plan: Green (RoHS & no Sb/Br); Mounting Technology: Surface Mount; Code_JEDEC: MS-013; ComponentLink1Description: Manufacturer URL; ComponentLink1URL: http://www.ti.com/; ComponentLink2Description: Datasheet; ComponentLink2URL: http://www.ti.com/general/docs/lit/getliterature.tsp?genericPartNumber=UC3872&fileType=pdf; ComponentLink3Description: Package Specification; ComponentLink3URL: http://www.ti.com/litv/pdf/msoi003g
footprint TI-DW16_N (SOIC, 16-Leads, Body 10.3x7.5mm, Pitch 1.27mm, IPC Medium Density)
footprint TI-DW16_L (SOIC, 16-Leads, Body 10.3x7.5mm, Pitch 1.27mm, IPC High Density)
footprint TI-DW16_M (SOIC, 16-Leads, Body 10.3x7.5mm, Pitch 1.27mm, IPC Low Density)
pins: 1 BOUT (out) "These outputs provide complementary drive signals for the push-pull N-channel MOSFETs.Each one is high for 50% of the time, switching states each time a zero-detect is sensed.", 2 AOUT (out) "These outputs provide complementary drive signals for the push-pull N-channel MOSFETs.Each one is high for 50% of the time, switching states each time a zero-detect is sensed.", 3 VC (power) "VC is the power supply voltage connection for the output drivers. Bypass it to ground with a 0.1uF ceramic capacitor for proper operation.", 4 COMP "COMP is the output terminal of the error amplifier. Compensation components are normally connected between COMP and INV. Connecting a capacitor from this pin to ground limits turn on current and blanks the open lamp detect (See Datasheet)", 5 SS (in), 6 NC, 7 INV (in) "This pin is the inverting input to the error amplifier and the input for the open lamp detect circuitry. If the voltage at INV is below the 1V open lamp detect threshold,the outputs are disabled.", 8 CT (in) "A capacitor connected between this pin and GND ground sets the synchronization frequency range. The capacitor is charged with approximately 200uA, creating a linear ramp which is used by COUT’s (buck regulator driver) PWM (See Datasheet)", 9 ZD (in) "The zero-detect input senses when the transformer’s primary center tap voltage falls to zero to synchronize the sawtooth voltage waveform on CT. The threshold is approximately 0.5V, providing a small amount of offset such (See Datasheet)", 10 NC, 11 REF (in) "This pin is connected to the 3V reference voltage which is used for the internal logic. Bypass REF to ground with a 0.01uF ceramic capacitor for proper operation.", 12 VCC (power) "VCC is the positive supply voltage for the chip. Its operating range is from 4.2V to 24V. Bypass VCC to ground with a 0.1uF ceramic capacitor for proper operation.", 13 ENBL (in) "When ENBL is driven high the device is enabled.When ENBL is pulled low, the IC is shut down and typically draws 1uA.", 14 COUT (out) "This output directly drives the bulk regulator P-channel MOSFET. COUT turn-on is synchronized to each zero-detect, and therefore switches at twice the frequency of AOUT and BOUT. The modulator controlling COUT is designed to (See Datasheet)", 15 PGND (power) "This pin is the high current ground connection for the three output drivers.", 16 GND (power) "This pin is the ground reference point for the internal reference and all thresholds."

## UC3872DWG4
designator U?
Resonant Lamp Ballast Controller, 4.5 to 24 V, 0 to 70 degC, 16-pin SOIC (DW16), Green (RoHS & no Sb/Br); Manufacturer: Texas Instruments; PartNumber: UC3872DWG4; Control Topology: Push-Pull; Frequency(Max)(kHz): 200; Open Lamp Detect: TRUE; Rating: Catalog; SubFamily: CCFL Backlight Converter; Vin(Max)(V): 24; Vin(Min)(V): 4.5; PackageVersion: 4040000-2/G; PackageReference: DW16; PackageDescription: 16-Pin Plastic Small Outline, Body 10.30 x 7.50 mm, Pitch 1.27 mm; Supplier 1: Digi-Key; Supplier Part Number 1: UC3872DWG4-ND; Supplier 2: Newark; Supplier Part Number 2: 70K6031; Supplier 3: Mouser; Supplier Part Number 3: 595-UC3872DWG4; Eco-Plan: Green (RoHS & no Sb/Br); Mounting Technology: Surface Mount; Code_JEDEC: MS-013; ComponentLink1Description: Manufacturer URL; ComponentLink1URL: http://www.ti.com/; ComponentLink2Description: Datasheet; ComponentLink2URL: http://www.ti.com/general/docs/lit/getliterature.tsp?genericPartNumber=UC3872&fileType=pdf; ComponentLink3Description: Package Specification; ComponentLink3URL: http://www.ti.com/litv/pdf/msoi003g
footprint TI-DW16_N (SOIC, 16-Leads, Body 10.3x7.5mm, Pitch 1.27mm, IPC Medium Density)
footprint TI-DW16_L (SOIC, 16-Leads, Body 10.3x7.5mm, Pitch 1.27mm, IPC High Density)
footprint TI-DW16_M (SOIC, 16-Leads, Body 10.3x7.5mm, Pitch 1.27mm, IPC Low Density)
pins: 1 BOUT (out) "These outputs provide complementary drive signals for the push-pull N-channel MOSFETs.Each one is high for 50% of the time, switching states each time a zero-detect is sensed.", 2 AOUT (out) "These outputs provide complementary drive signals for the push-pull N-channel MOSFETs.Each one is high for 50% of the time, switching states each time a zero-detect is sensed.", 3 VC (power) "VC is the power supply voltage connection for the output drivers. Bypass it to ground with a 0.1uF ceramic capacitor for proper operation.", 4 COMP "COMP is the output terminal of the error amplifier. Compensation components are normally connected between COMP and INV. Connecting a capacitor from this pin to ground limits turn on current and blanks the open lamp detect (See Datasheet)", 5 SS (in), 6 NC, 7 INV (in) "This pin is the inverting input to the error amplifier and the input for the open lamp detect circuitry. If the voltage at INV is below the 1V open lamp detect threshold,the outputs are disabled.", 8 CT (in) "A capacitor connected between this pin and GND ground sets the synchronization frequency range. The capacitor is charged with approximately 200uA, creating a linear ramp which is used by COUT’s (buck regulator driver) PWM (See Datasheet)", 9 ZD (in) "The zero-detect input senses when the transformer’s primary center tap voltage falls to zero to synchronize the sawtooth voltage waveform on CT. The threshold is approximately 0.5V, providing a small amount of offset such (See Datasheet)", 10 NC, 11 REF (in) "This pin is connected to the 3V reference voltage which is used for the internal logic. Bypass REF to ground with a 0.01uF ceramic capacitor for proper operation.", 12 VCC (power) "VCC is the positive supply voltage for the chip. Its operating range is from 4.2V to 24V. Bypass VCC to ground with a 0.1uF ceramic capacitor for proper operation.", 13 ENBL (in) "When ENBL is driven high the device is enabled.When ENBL is pulled low, the IC is shut down and typically draws 1uA.", 14 COUT (out) "This output directly drives the bulk regulator P-channel MOSFET. COUT turn-on is synchronized to each zero-detect, and therefore switches at twice the frequency of AOUT and BOUT. The modulator controlling COUT is designed to (See Datasheet)", 15 PGND (power) "This pin is the high current ground connection for the three output drivers.", 16 GND (power) "This pin is the ground reference point for the internal reference and all thresholds."

## UC3872DWTR
designator U?
Resonant Lamp Ballast Controller, 4.5 to 24 V, 0 to 70 degC, 16-pin SOIC (DW16), Green (RoHS & no Sb/Br); Manufacturer: Texas Instruments; PartNumber: UC3872DWTR; Control Topology: Push-Pull; Frequency(Max)(kHz): 200; Open Lamp Detect: TRUE; Rating: Catalog; SubFamily: CCFL Backlight Converter; Vin(Max)(V): 24; Vin(Min)(V): 4.5; PackageVersion: 4040000-2/G; PackageReference: DW16; PackageDescription: 16-Pin Plastic Small Outline, Body 10.30 x 7.50 mm, Pitch 1.27 mm; Supplier 1: Digi-Key; Supplier Part Number 1: UC3872DWTR-ND; Supplier 2: Newark; Supplier Part Number 2: 77C3420; Supplier 3: Mouser; Supplier Part Number 3: 595-UC3872DWTR; Eco-Plan: Green (RoHS & no Sb/Br); Mounting Technology: Surface Mount; Code_JEDEC: MS-013; ComponentLink1Description: Manufacturer URL; ComponentLink1URL: http://www.ti.com/; ComponentLink2Description: Datasheet; ComponentLink2URL: http://www.ti.com/general/docs/lit/getliterature.tsp?genericPartNumber=UC3872&fileType=pdf; ComponentLink3Description: Package Specification; ComponentLink3URL: http://www.ti.com/litv/pdf/msoi003g
footprint TI-DW16_N (SOIC, 16-Leads, Body 10.3x7.5mm, Pitch 1.27mm, IPC Medium Density)
footprint TI-DW16_L (SOIC, 16-Leads, Body 10.3x7.5mm, Pitch 1.27mm, IPC High Density)
footprint TI-DW16_M (SOIC, 16-Leads, Body 10.3x7.5mm, Pitch 1.27mm, IPC Low Density)
pins: 1 BOUT (out) "These outputs provide complementary drive signals for the push-pull N-channel MOSFETs.Each one is high for 50% of the time, switching states each time a zero-detect is sensed.", 2 AOUT (out) "These outputs provide complementary drive signals for the push-pull N-channel MOSFETs.Each one is high for 50% of the time, switching states each time a zero-detect is sensed.", 3 VC (power) "VC is the power supply voltage connection for the output drivers. Bypass it to ground with a 0.1uF ceramic capacitor for proper operation.", 4 COMP "COMP is the output terminal of the error amplifier. Compensation components are normally connected between COMP and INV. Connecting a capacitor from this pin to ground limits turn on current and blanks the open lamp detect (See Datasheet)", 5 SS (in), 6 NC, 7 INV (in) "This pin is the inverting input to the error amplifier and the input for the open lamp detect circuitry. If the voltage at INV is below the 1V open lamp detect threshold,the outputs are disabled.", 8 CT (in) "A capacitor connected between this pin and GND ground sets the synchronization frequency range. The capacitor is charged with approximately 200uA, creating a linear ramp which is used by COUT’s (buck regulator driver) PWM (See Datasheet)", 9 ZD (in) "The zero-detect input senses when the transformer’s primary center tap voltage falls to zero to synchronize the sawtooth voltage waveform on CT. The threshold is approximately 0.5V, providing a small amount of offset such (See Datasheet)", 10 NC, 11 REF (in) "This pin is connected to the 3V reference voltage which is used for the internal logic. Bypass REF to ground with a 0.01uF ceramic capacitor for proper operation.", 12 VCC (power) "VCC is the positive supply voltage for the chip. Its operating range is from 4.2V to 24V. Bypass VCC to ground with a 0.1uF ceramic capacitor for proper operation.", 13 ENBL (in) "When ENBL is driven high the device is enabled.When ENBL is pulled low, the IC is shut down and typically draws 1uA.", 14 COUT (out) "This output directly drives the bulk regulator P-channel MOSFET. COUT turn-on is synchronized to each zero-detect, and therefore switches at twice the frequency of AOUT and BOUT. The modulator controlling COUT is designed to (See Datasheet)", 15 PGND (power) "This pin is the high current ground connection for the three output drivers.", 16 GND (power) "This pin is the ground reference point for the internal reference and all thresholds."

## UC3872DWTRG4
designator U?
Resonant Lamp Ballast Controller, 4.5 to 24 V, 0 to 70 degC, 16-pin SOIC (DW16), Green (RoHS & no Sb/Br); Manufacturer: Texas Instruments; PartNumber: UC3872DWTRG4; Control Topology: Push-Pull; Frequency(Max)(kHz): 200; Open Lamp Detect: TRUE; Rating: Catalog; SubFamily: CCFL Backlight Converter; Vin(Max)(V): 24; Vin(Min)(V): 4.5; PackageVersion: 4040000-2/G; PackageReference: DW16; PackageDescription: 16-Pin Plastic Small Outline, Body 10.30 x 7.50 mm, Pitch 1.27 mm; Supplier 1: Digi-Key; Supplier Part Number 1: UC3872DWTRG4-ND; Supplier 2: Newark; Supplier Part Number 2: 63K6760; Supplier 3: Mouser; Supplier Part Number 3: 595-UC3872DWTRG4; Eco-Plan: Green (RoHS & no Sb/Br); Mounting Technology: Surface Mount; Code_JEDEC: MS-013; ComponentLink1Description: Manufacturer URL; ComponentLink1URL: http://www.ti.com/; ComponentLink2Description: Datasheet; ComponentLink2URL: http://www.ti.com/general/docs/lit/getliterature.tsp?genericPartNumber=UC3872&fileType=pdf; ComponentLink3Description: Package Specification; ComponentLink3URL: http://www.ti.com/litv/pdf/msoi003g
footprint TI-DW16_N (SOIC, 16-Leads, Body 10.3x7.5mm, Pitch 1.27mm, IPC Medium Density)
footprint TI-DW16_L (SOIC, 16-Leads, Body 10.3x7.5mm, Pitch 1.27mm, IPC High Density)
footprint TI-DW16_M (SOIC, 16-Leads, Body 10.3x7.5mm, Pitch 1.27mm, IPC Low Density)
pins: 1 BOUT (out) "These outputs provide complementary drive signals for the push-pull N-channel MOSFETs.Each one is high for 50% of the time, switching states each time a zero-detect is sensed.", 2 AOUT (out) "These outputs provide complementary drive signals for the push-pull N-channel MOSFETs.Each one is high for 50% of the time, switching states each time a zero-detect is sensed.", 3 VC (power) "VC is the power supply voltage connection for the output drivers. Bypass it to ground with a 0.1uF ceramic capacitor for proper operation.", 4 COMP "COMP is the output terminal of the error amplifier. Compensation components are normally connected between COMP and INV. Connecting a capacitor from this pin to ground limits turn on current and blanks the open lamp detect (See Datasheet)", 5 SS (in), 6 NC, 7 INV (in) "This pin is the inverting input to the error amplifier and the input for the open lamp detect circuitry. If the voltage at INV is below the 1V open lamp detect threshold,the outputs are disabled.", 8 CT (in) "A capacitor connected between this pin and GND ground sets the synchronization frequency range. The capacitor is charged with approximately 200uA, creating a linear ramp which is used by COUT’s (buck regulator driver) PWM (See Datasheet)", 9 ZD (in) "The zero-detect input senses when the transformer’s primary center tap voltage falls to zero to synchronize the sawtooth voltage waveform on CT. The threshold is approximately 0.5V, providing a small amount of offset such (See Datasheet)", 10 NC, 11 REF (in) "This pin is connected to the 3V reference voltage which is used for the internal logic. Bypass REF to ground with a 0.01uF ceramic capacitor for proper operation.", 12 VCC (power) "VCC is the positive supply voltage for the chip. Its operating range is from 4.2V to 24V. Bypass VCC to ground with a 0.1uF ceramic capacitor for proper operation.", 13 ENBL (in) "When ENBL is driven high the device is enabled.When ENBL is pulled low, the IC is shut down and typically draws 1uA.", 14 COUT (out) "This output directly drives the bulk regulator P-channel MOSFET. COUT turn-on is synchronized to each zero-detect, and therefore switches at twice the frequency of AOUT and BOUT. The modulator controlling COUT is designed to (See Datasheet)", 15 PGND (power) "This pin is the high current ground connection for the three output drivers.", 16 GND (power) "This pin is the ground reference point for the internal reference and all thresholds."